# EAGLE library part MICROFIT-10-DUAL (library Molex-Aaron)
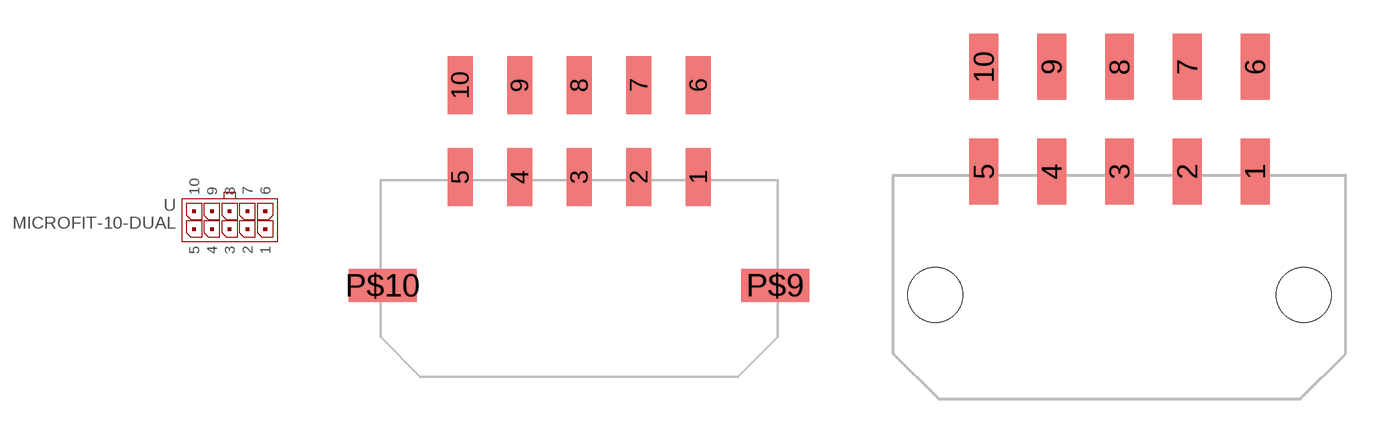
[diagram p0: symbol with the pads of MICROFIT-10-DUAL-RA-SMD; footprints MICROFIT-10-DUAL-RA-SMD, MICROFIT-10-DUAL-RA-SMD-CLIP_RETENTION]

Designator prefix -

## MICROFIT-10-DUAL-RA-SMD  [MICROFIT-10-DUAL-RA-SMD]
1  6
2  7
3  8
4  9
5  10
6  5
7  4
8  3
9  2
10  1

## MICROFIT-10-DUAL-RA-SMD-CLIP_RETENTION  [MICROFIT-10-DUAL-RA-SMD-CLIP_RETENTION]
1  1
2  2
3  3
4  4
5  5
6  6
7  7
8  8
9  9
10  10

## MICROFIT-10-DUAL-VERT-SMD-CLIP_RETENTION  [MICROFIT-10-DUAL-VERT-SMD-CLIP_RETENTION]
Pads as for MICROFIT-10-DUAL-RA-SMD-CLIP_RETENTION

## Footprint MICROFIT-10-DUAL-RA-SMD (pad centres in mm)
Molex MicroFit 3.00mm Pitch Header, Surface Mount, Dual Row, Right Angle, 10 Circuits Molex P/N: 43045-1009 Drawing: http://www.molex.com/pdm_docs/sd/430451009_sd.pdf
smd 1.27 x 2.921: 1 6,5.47; 2 3,5.47; 3 0,5.47; 4 -3,5.47; 5 -6,5.47; 6 6,10.1; 7 3,10.1; 8 0,10.1; 9 -3,10.1; 10 -6,10.1
smd 3.429 x 1.651: P$9 9.875,0; P$10 -9.895,0

## Footprint MICROFIT-10-DUAL-RA-SMD-CLIP_RETENTION (pad centres in mm)
3.00mm Pitch Micro-Fit 3.0? Header, Surface Mount, Dual Row, Right Angle, with Press-fit Metal Retention Clip, 10 Circuits, Tin Plating Molex part number: 43045-1006 Website: http://www.molex.com/molex/products/datasheet.jsp?part=active/0430451006_PCB_HEADERS.xml Drawing: http://www.molex.com/pdm_docs/sd/430451006_sd.pdf
smd 1.27 x 2.921: 1 6,5.47; 2 3,5.47; 3 0,5.47; 4 -3,5.47; 5 -6,5.47; 6 6,10.1; 7 3,10.1; 8 0,10.1; 9 -3,10.1; 10 -6,10.1
hole 2.413 at 8.153,0
hole 2.413 at -8.153,0

## Footprint MICROFIT-10-DUAL-VERT-SMD-CLIP_RETENTION (pad centres in mm)
smd 1.27 x 2.54: 1 6,-4.699; 2 3,-4.699; 3 0,-4.699; 4 -3,-4.699; 5 -6,-4.699; 6 6,4.699; 7 3,4.699; 8 0,4.699; 9 -3,4.699; 10 -6,4.699
hole 2.41 at 8.15,0
hole 2.41 at -8.15,0